# Altium footprint library B3B-EH-A.PcbLib: 1 footprints
Each footprint in its own frame and in the unit in brackets; x right, y up, seen from the top. Pads: shape width x height; smd on the part's side, far side on the other; paste and mask are expansions set on the pad; w line width, h text height; cw(c..) or ccw(c..) is an arc to the next point about the centre after c.
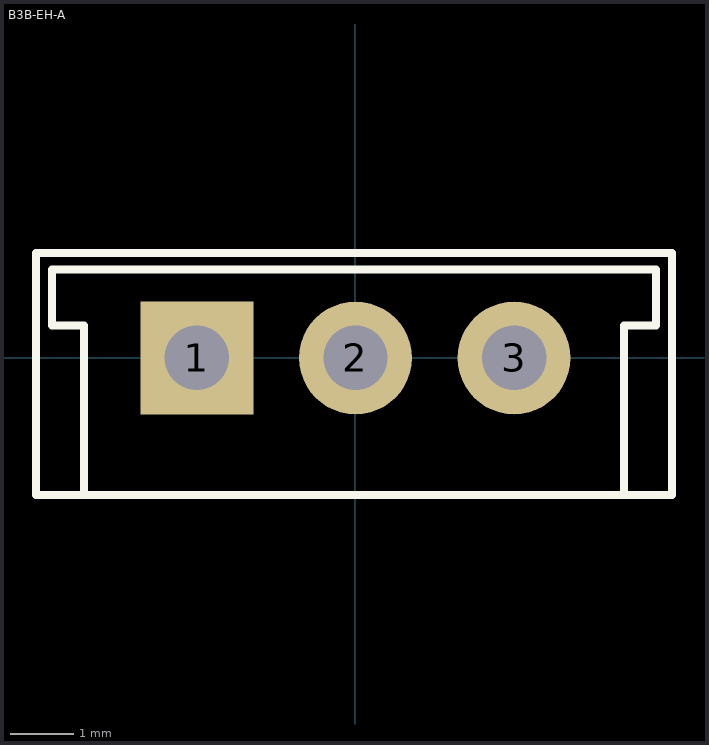
[diagram p0: the footprint, top view; thin cyan lines are the x and y axes]

## B3B-EH-A [mil] "EH Connector 2.5mm pitch"
height 236.22
pads (3):
  rect 70x70 hole 40: 1(-98.43,0)
  round 70 hole 40: 2(0,0) 3(98.43,0)
TopOverlay:
  lines w5: -168.43,-85 -168.43,20 -188.43,20 -188.43,55 186.57,55 186.57,20 166.57,20 166.57,-85 ; -198.43,-85 -198.43,65 196.57,65 196.57,-85 -198.43,-85
3D body: height 39.37, standoff 0, extent -188.41,-84.98 186.55,54.98
3D body: height 236.22, standoff 0, extent -198.41,-84.98 196.55,64.98